# Altium schematic symbol library STM32G030K6T6.SchLib: 2 symbols
Pins are listed as number, name and electrical type; pins without a type are passive.

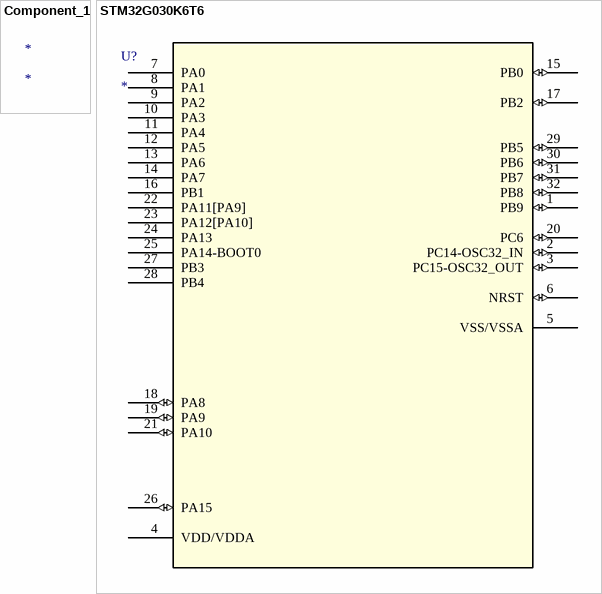
[diagram p0: symbols Component_1 to STM32G030K6T6]

## Component_1
designator *

## STM32G030K6T6
designator U?
No Description Available; Mfr_Name: STMicroelectronics; RefDes: RefDes; Type: Type
footprint LQFP-32
pins: 1 PB9 (io), 2 PC14-OSC32_IN (io), 3 PC15-OSC32_OUT (io), 4 VDD/VDDA (power), 5 VSS/VSSA (power), 6 NRST (io), 7 PA0, 8 PA1, 9 PA2, 10 PA3, 11 PA4, 12 PA5, 13 PA6, 14 PA7, 15 PB0 (io), 16 PB1, 17 PB2 (io), 18 PA8 (io), 19 PA9 (io), 20 PC6 (io), 21 PA10 (io), 22 PA11[PA9], 23 PA12[PA10], 24 PA13, 25 PA14-BOOT0, 26 PA15 (io), 27 PB3, 28 PB4, 29 PB5 (io), 30 PB6 (io), 31 PB7 (io), 32 PB8 (io)